# EAGLE library part MSP430-H169 (library 00shaunc)
Olimex MSP430F169 Header Board
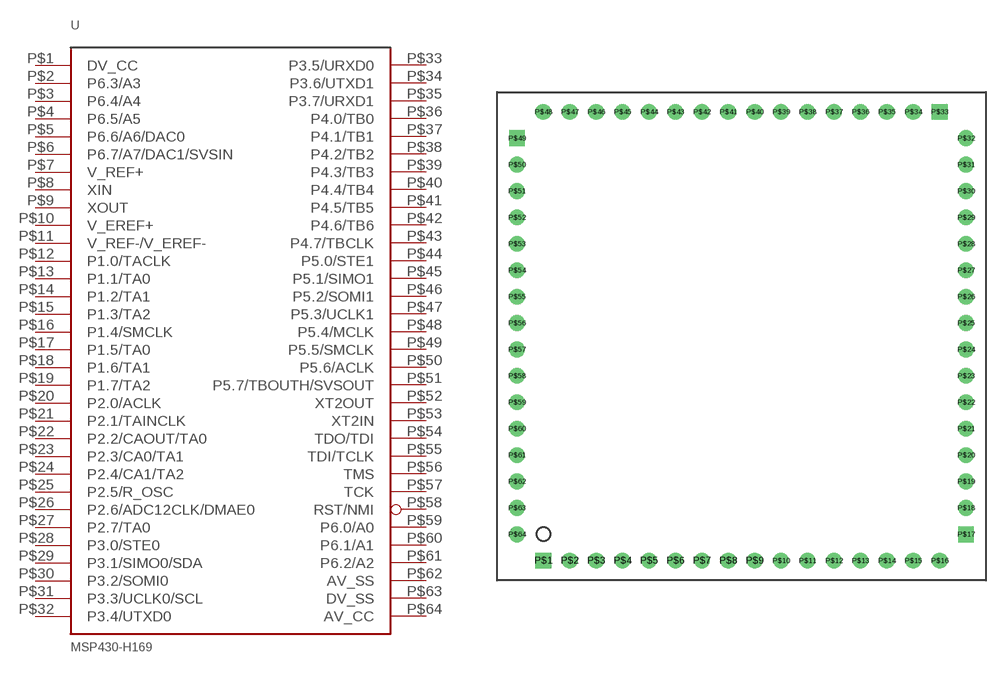
[diagram p1: symbol with the pads of MSP430-HXXX; footprint MSP430-HXXX]

Designator prefix -

## MSP430-H169  [MSP430-HXXX]
P$1  DV_CC
P$2  P6.3/A3
P$3  P6.4/A4
P$4  P6.5/A5
P$5  P6.6/A6/DAC0
P$6  P6.7/A7/DAC1/SVSIN
P$7  V_REF+
P$8  XIN
P$9  XOUT
P$10  V_EREF+
P$11  V_REF-/V_EREF-
P$12  P1.0/TACLK
P$13  P1.1/TA0
P$14  P1.2/TA1
P$15  P1.3/TA2
P$16  P1.4/SMCLK
P$17  P1.5/TA0
P$18  P1.6/TA1
P$19  P1.7/TA2
P$20  P2.0/ACLK
P$21  P2.1/TAINCLK
P$22  P2.2/CAOUT/TA0
P$23  P2.3/CA0/TA1
P$24  P2.4/CA1/TA2
P$25  P2.5/R_OSC
P$26  P2.6/ADC12CLK/DMAE0
P$27  P2.7/TA0
P$28  P3.0/STE0
P$29  P3.1/SIMO0/SDA
P$30  P3.2/SOMI0
P$31  P3.3/UCLK0/SCL
P$32  P3.4/UTXD0
P$33  P3.5/URXD0
P$34  P3.6/UTXD1
P$35  P3.7/URXD1
P$36  P4.0/TB0
P$37  P4.1/TB1
P$38  P4.2/TB2
P$39  P4.3/TB3
P$40  P4.4/TB4
P$41  P4.5/TB5
P$42  P4.6/TB6
P$43  P4.7/TBCLK
P$44  P5.0/STE1
P$45  P5.1/SIMO1
P$46  P5.2/SOMI1
P$47  P5.3/UCLK1
P$48  P5.4/MCLK
P$49  P5.5/SMCLK
P$50  P5.6/ACLK
P$51  P5.7/TBOUTH/SVSOUT
P$52  XT2OUT
P$53  XT2IN
P$54  TDO/TDI
P$55  TDI/TCLK
P$56  TMS
P$57  TCK
P$58  RST/NMI
P$59  P6.0/A0
P$60  P6.1/A1
P$61  P6.2/A2
P$62  AV_SS
P$63  DV_SS
P$64  AV_CC

## Footprint MSP430-HXXX (pad centres in mm)
drill 1 square: P$1 -19.05,-21.59; P$17 21.59,-19.05; P$33 19.05,21.59; P$49 -21.59,19.05
drill 1: P$2 -16.51,-21.59; P$3 -13.97,-21.59; P$4 -11.43,-21.59; P$5 -8.89,-21.59; P$6 -6.35,-21.59; P$7 -3.81,-21.59; P$8 -1.27,-21.59; P$9 1.27,-21.59; P$10 3.81,-21.59; P$11 6.35,-21.59; P$12 8.89,-21.59; P$13 11.43,-21.59; P$14 13.97,-21.59; P$15 16.51,-21.59; P$16 19.05,-21.59; P$18 21.59,-16.51; P$19 21.59,-13.97; P$20 21.59,-11.43; P$21 21.59,-8.89; P$22 21.59,-6.35; P$23 21.59,-3.81; P$24 21.59,-1.27; P$25 21.59,1.27; P$26 21.59,3.81; P$27 21.59,6.35; P$28 21.59,8.89; P$29 21.59,11.43; P$30 21.59,13.97; P$31 21.59,16.51; P$32 21.59,19.05; P$34 16.51,21.59; P$35 13.97,21.59; P$36 11.43,21.59; P$37 8.89,21.59; P$38 6.35,21.59; P$39 3.81,21.59; P$40 1.27,21.59; P$41 -1.27,21.59; P$42 -3.81,21.59; P$43 -6.35,21.59; P$44 -8.89,21.59; P$45 -11.43,21.59; P$46 -13.97,21.59; P$47 -16.51,21.59; P$48 -19.05,21.59; P$50 -21.59,16.51; P$51 -21.59,13.97; P$52 -21.59,11.43; P$53 -21.59,8.89; P$54 -21.59,6.35; P$55 -21.59,3.81; P$56 -21.59,1.27; P$57 -21.59,-1.27; P$58 -21.59,-3.81; P$59 -21.59,-6.35; P$60 -21.59,-8.89; P$61 -21.59,-11.43; P$62 -21.59,-13.97; P$63 -21.59,-16.51; P$64 -21.59,-19.05